# EAGLE library part MOSFET-PCHANNEL-NTGS4111P (library rgb_cube)
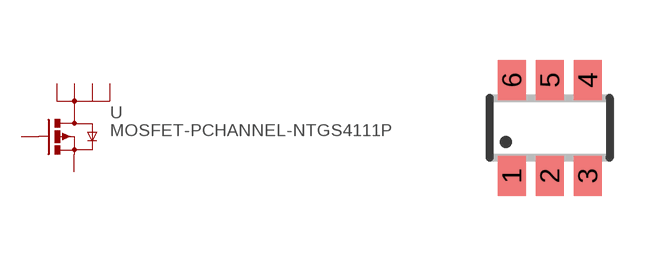
[diagram p37: symbol with the pads of TSOP-6; footprint TSOP-6]

Designator prefix -

## MOSFET-PCHANNEL-NTGS4111P  [TSOP-6]
1  D  pas
2  D1  pas
3  G  pas
4  S  pas
5  D2  pas
6  D3  pas

## Footprint TSOP-6 (pad centres in mm)
smd 0.7 x 1: 1 -0.95,-1.2; 2 0,-1.2; 3 0.95,-1.2; 4 0.95,1.2; 5 0,1.2; 6 -0.95,1.2